# Altium schematic symbol library MP2459GJ-P.SchLib: 1 symbol
Pins are listed as number, name and electrical type; pins without a type are passive.

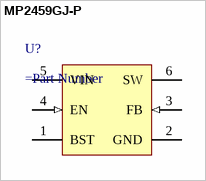
[diagram p0: symbol MP2459GJ-P]

## MP2459GJ-P
designator U?
=Description
pins: 1 BST, 2 GND (power), 3 FB (in), 4 EN (in), 5 VIN (power), 6 SW (power)